# Altium schematic symbol library MUR1560G.SchLib: 1 symbol
Pins are listed as number, name and electrical type; pins without a type are passive.

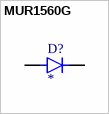
[diagram p0: symbol MUR1560G]

## MUR1560G
designator D?
Diode Standard 600 V 15A Through Hole TO-220-2; MF: ON Semiconductor; MP: MUR1560G; Check_prices: https://www.snapeda.com/parts/MUR1560G/Onsemi/view-part/?ref=eda; Value: *; Purchase-URL: https://pricing.snapeda.com/search/part/MUR1560G/?ref=eda; Price: None; Package: TO-220-2 ON Semiconductor; Availability: In Stock; SnapEDA_Link: https://www.snapeda.com/parts/MUR1560G/Onsemi/view-part/?ref=snap
footprint TO508P997X444X1905-2
pins: 1 K, 3 A